# Altium footprint library diode.PcbLib: 49 footprints (part 1 of 4)
Each footprint in its own frame and in the unit in brackets; x right, y up, seen from the top. Pads: shape width x height; smd on the part's side, far side on the other; paste and mask are expansions set on the pad; w line width, h text height; cw(c..) or ccw(c..) is an arc to the next point about the centre after c.
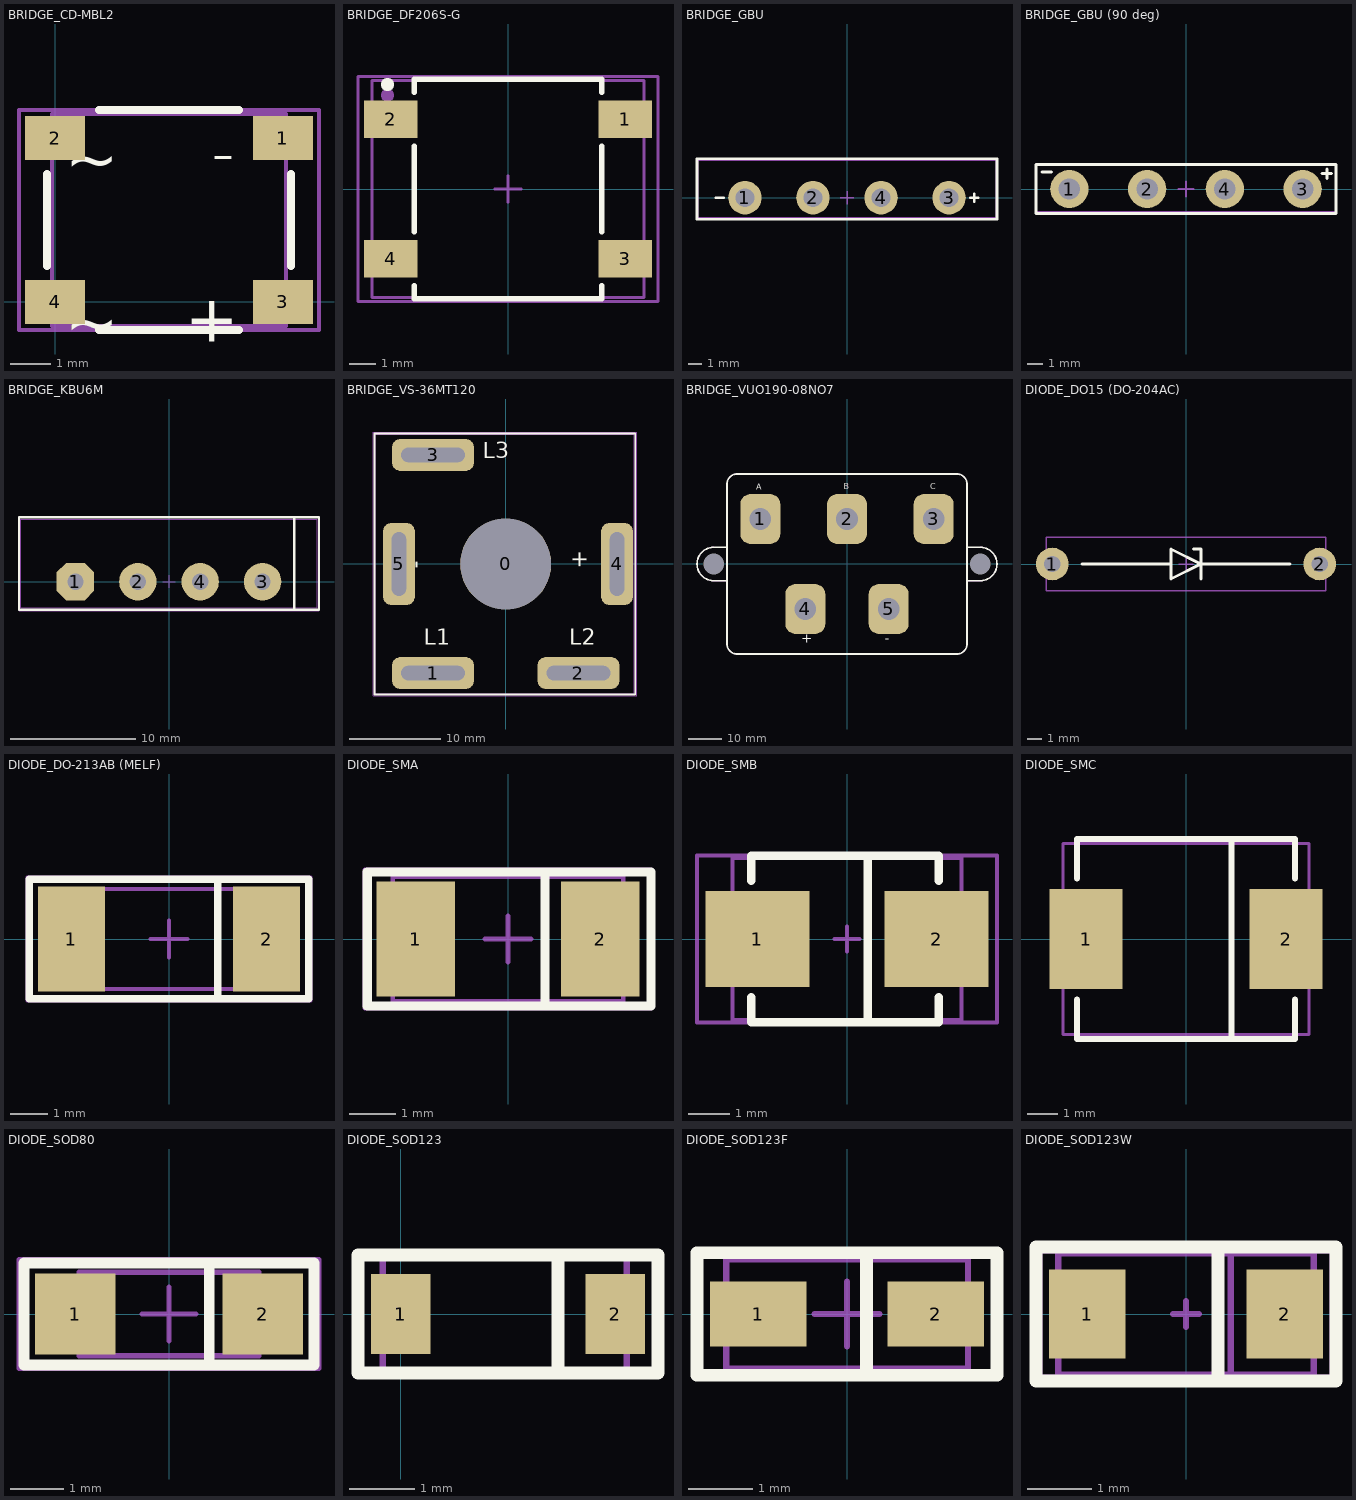
[diagram p0: the footprints below, top view; thin cyan lines are the x and y axes]

## BRIDGE_CD-MBL2 [mm]
pads (4):
  rect 1.5x1.1 smd: 1(5.7,4.1) 2(0,4.1) 3(5.7,0) 4(0,0)
Top Overlay:
  lines w0.2: -0.2,0.9 -0.2,3.2 ; 1.1,-0.7 4.6,-0.7 ; 1.1,4.8 4.6,4.8 ; 5.9,0.9 5.9,3.2
  text "-" at 4.5,4.4 h2
  text "+" at 4.6,0.4 h2
  text "~" at 1.6,0.3 h2
  text "~" at 1.6,4.4 h2
Mechanical 1:
  lines w0.1: -0.07,-0.6 -0.07,4.7 5.77,4.7 5.77,-0.6 -0.07,-0.6
  text "+" at 5.2,0.4 h2
  text "-" at 5.2,4.4 h2
  text "~" at 0.9,4.4 h2
  text "~" at 0.9,0.3 h2
Mechanical 15:
  lines w0.1: -0.9,-0.7 6.6,-0.7 6.6,4.8 -0.9,4.8 -0.9,-0.7
3D body "CD-MBL206SL.STEP": height 1.22, standoff 0, extent -0.07,-0.6 5.77,4.7

## BRIDGE_DF206S-G [mm]
height 22
pads (6):
  rect 2x1.4 smd: 1(4.37,2.605) 2(-4.37,2.605) 3(4.37,-2.605) 4(-4.37,-2.605)
  round 0.5 on Mech1: ""(-4.5,3.5)
  round 0.5 on Top Overlay: ""(-4.5,3.9)
Top Overlay:
  lines w0.2: -3.5,-3.6 -3.5,-4.1 3.5,-4.1 3.5,-3.6 ; -3.5,-1.6 -3.5,1.6 ; -3.5,3.6 -3.5,4.1 3.5,4.1 3.5,3.6 ; 3.5,-1.6 3.5,1.6
Mechanical 1:
  lines w0.1: -5.075,-4.05 -5.075,4.05 5.075,4.05 5.075,-4.05 -5.075,-4.05
Mechanical 15:
  lines w0.1: -0.5,0 0.5,0 ; 0,-0.5 0,0.5 ; -5.6,-4.2 -5.6,4.2 5.6,4.2 5.6,-4.2 -5.6,-4.2
3D body "User Library-PONTE-1.STEP": height 2.7, standoff 0, extent -5.075,-4.05 5.075,4.05

## BRIDGE_GBU [mm] "SMD Diode Bridge"
height 2
pads (4):
  round 2.5 hole 1.4: 1(-7.62,0) 2(-2.54,0) 3(7.62,0) 4(2.54,0)
Top Overlay:
  lines w0.2: -9.8,0 -9.2,0 ; 9.2,0 9.8,0 ; 9.5,-0.3 9.5,0.3 ; -11.2,-1.6 11.2,-1.6 11.2,2.9 -11.2,2.9 -11.2,-1.6
Mechanical 1:
  lines w0.1: -9.8,0 -9.2,0 ; 9.2,0 9.8,0 ; 9.5,-0.3 9.5,0.3 ; -11.15,-1.5 11.15,-1.5 11.15,-0.8 11.15,2.81 -11.15,2.81 -11.15,-1.5
Mechanical 15:
  lines w0.1: -0.5,0 0.5,0 ; 0,-0.5 0,0.5 ; -11.2,-1.6 11.2,-1.6 11.2,2.9 -11.2,2.9 -11.2,-1.6
3D body "User Library-GBU10A.STEP": height 23.8, standoff -13.1, extent -11.15,-0.8 11.15,2.81

## BRIDGE_GBU (90 deg) [mm] "SMD Diode Bridge"
height 2
pads (4):
  round 2.5 hole 1.4: 1(-7.62,0) 2(-2.54,0) 3(7.62,0) 4(2.54,0)
Top Overlay:
  lines w0.2: -9.4,1.1 -8.8,1.1 ; 8.9,1 9.5,1 ; 9.2,0.7 9.2,1.3 ; -9.8,-1.6 9.8,-1.6 9.8,1.6 -9.8,1.6 -9.8,-1.6
Mechanical 1:
  lines w0.1: -9.4,1.1 -8.8,1.1 ; 8.9,1 9.5,1 ; 9.2,0.7 9.2,1.3 ; -9.8,-1.5 9.8,-1.5 9.8,1.6 -9.8,1.6 -9.8,-1.5
Mechanical 15:
  lines w0.1: -0.5,0 0.5,0 ; 0,-0.5 0,0.5 ; -9.8,-1.6 9.8,-1.6 9.8,1.6 -9.8,1.6 -9.8,-1.6
3D body "User Library-GBU.STEP": height 1.71, standoff -6.16, extent -11.15,-0.35 11.15,24.58

## BRIDGE_KBU6M [mm]
height 22
pads (4):
  oct 3x3 hole 1.3: 1(-7.5,0)
  round 3 hole 1.3: 2(-2.5,0) 3(7.5,0) 4(2.5,0)
Top Overlay:
  lines w0.2: 10.04,-2.25 10.04,5.15 ; -12.025,-2.25 12.025,-2.25 12.025,5.15 -12.025,5.15 -12.025,-2.25
Mechanical 1:
  lines w0.1: 10,-2.1 10,5 ; -11.875,-2.1 11.875,-2.1 11.875,5 -11.875,5 -11.875,-2.1
Mechanical 15:
  lines w0.1: -0.5,0 0.5,0 ; 0,-0.5 0,0.5 ; -12.025,-2.31 -12.025,5.15 12.025,5.15 12.025,-2.31 -12.025,-2.31
3D body "KBU6M.STEP": height 19.8, standoff -2, extent -11.85,-2.1 11.85,5

## BRIDGE_VS-36MT120 [mm]
pads (6):
  round 10 hole 10: 0(0,0)
  rrect50% 9x3.5 hole 1.6 slot 7 at 0 deg: 1(-8,-12) 2(8,-12) 3(-8,12)
  rrect50% 3.5x9 hole 1.6 slot 7 at 90 deg: 4(12.25,0) 5(-11.75,0)
Top Overlay:
  lines w0.2: -14.45,-14.35 -14.45,14.35 14.25,14.35 14.25,-14.35 -14.45,-14.35
  text "-" at -8.5,-0.5 h3
  text "+" at 9.5,-0.5 h3
  text "L2" at 7,-9.5 h3
  text "L3" at -2.5,11 h3
  text "L1" at -9,-9.5 h3
Mechanical 1:
  lines w0.1: -14.35,-14.25 14.15,-14.25 14.15,14.25 -14.35,14.25 -14.35,-14.25
Mechanical 15:
  lines w0.1: -14.6,-14.5 14.4,-14.5 14.4,14.5 -14.6,14.5 -14.6,-14.5
3D body "D-63.stp": height 16, standoff -6, extent -14.35,-14.25 14.15,14.25

## BRIDGE_VUO190-08NO7 [mm]
pads (7):
  rrect50% 12x15 hole 6.5: 1(-26,13.5) 2(0,13.5) 3(26,13.5) 4(-12.5,-13.5) 5(12.5,-13.5)
  round 0 hole 6.2: MH(-40,0) MH(40,0)
Top Overlay:
  lines w0.5: -36,-5 -40,-5 cw(c-40,0) -40,5 -36,5 ; 36,-5 40,-5 ccw(c40,0) 40,5 36,5 ; -36,-24 ccw(c-33,-24) -33,-27 33,-27 ccw(c33,-24) 36,-24 36,24 ccw(c33,24) 33,27 -33,27 ccw(c-33,24) -36,24 -36,-24
  text "+" at -13.75,-24.743 h5
  text "-" at 11.25,-24.75 h5
  text "C" at 25,21.75 h3
  text "B" at -1,21.75 h3
  text "A" at -27.25,21.743 h3
Mechanical 1:
  lines w0.1: -36,-5 -40,-5 cw(c-40,0) -40,5 -36,5 ; 36,-5 40,-5 ccw(c40,0) 40,5 36,5 ; -36,-24 ccw(c-33,-24) -33,-27 33,-27 ccw(c33,-24) 36,-24 36,24 ccw(c33,24) 33,27 -33,27 ccw(c-33,24) -36,24 -36,-24
Mechanical 15:
  lines w0.1: -36,-5 -40,-5 cw(c-40,0) -40,5 -36,5 ; 36,-5 40,-5 ccw(c40,0) 40,5 36,5 ; -36,-24 ccw(c-33,-24) -33,-27 33,-27 ccw(c33,-24) 36,-24 36,24 ccw(c33,24) 33,27 -33,27 ccw(c-33,24) -36,24 -36,-24

## DIODE_DO15 (DO-204AC) [mm]
pads (2):
  round 2.2 hole 1.1 mask+0.075: 1(-9,0) 2(9,0)
Top Overlay:
  lines w0.2: -7,0 -1,0 -1,1 ; 0.5,1 1,1 1,-1 ; 7,0 1,0 ; -1,1 1,0 ; -1,1 -1,-1 1,0
Mechanical 1:
  lines w0.1: -7,0 -1,0 -1,1 ; 0.5,1 1,1 1,-1 ; 7,0 1,0 ; -1,1 1,0 ; -1,1 -1,-1 1,0 ; -9.4,-1.8 -9.4,1.8 9.4,1.8 9.4,-1.8 -9.4,-1.8
Mechanical 15:
  lines w0.1: -0.5,0 0.5,0 ; 0,-0.5 0,0.5 ; -9.4,-1.8 9.4,-1.8 9.4,1.8 -9.4,1.8 -9.4,-1.8
3D body "User Library-DO-15-70.STEP": height 3.53, standoff -2, extent -9.415,-1.749 9.415,1.748

## DIODE_DO-213AB (MELF) [mm] "MELF Diode, 2-Leads, Body 5,01x2,53mm, IPC Medium Density"
height 2.67
pads (2):
  rect 1.8x2.8 smd: 1(-2.6,0) 2(2.6,0)
Top Overlay:
  lines w0.2: 1.3,-1.6 1.3,1.6 ; -3.725,-1.6 -3.725,1.6 3.725,1.6 3.725,-1.6 -3.725,-1.6
Mechanical 1:
  lines w0.1: -2.605,-1.335 2.605,-1.335 2.605,1.335 -2.605,1.335 -2.605,-1.335
Mechanical 15:
  lines w0.1: -0.5,0 0.5,0 ; 0,-0.5 0,0.5 ; -3.775,-1.65 3.775,-1.65 3.775,1.65 -3.775,1.65 -3.775,-1.65
3D body "User Library-MELF DO213AB.STEP": height 2.6, standoff 0, extent -2.4,-1.3 2.4,1.3

## DIODE_SMA [mm]
pads (3):
  rect 1.7x2.5 smd: 1(-2,0) 2(2,0)
  round 0.5 on Mech1: ""(2,0.9)
Top Overlay:
  lines w0.2: 0.8,-1.45 0.8,1.45 ; -3.05,-1.45 3.1,-1.45 3.1,1.45 -3.05,1.45 -3.05,-1.45
Mechanical 1:
  lines w0.1: -2.5,-1.35 2.5,-1.35 2.5,1.35 -2.5,1.35 -2.5,-1.35
Mechanical 15:
  lines w0.1: -0.5,0 0.5,0 ; 0,-0.5 0,0.5 ; -3.1,-1.5 -3.1,1.5 3.1,1.5 3.1,-1.5 -3.1,-1.5
3D body "User Library-Diode Molded BodyDIOM5025X231N.STEP": height 2.28, standoff -0.03, extent -2.5,-1.35 2.5,1.35

## DIODE_SMB [mm]
pads (2):
  rect 2.5x2.3 smd: 1(-2.15,0) 2(2.15,0)
Top Overlay:
  lines w0.2: -2.3,-1.4 -2.3,-2 2.2,-2 2.2,-1.4 ; -2.3,1.4 -2.3,2 2.2,2 2.2,1.4 ; 0.5,-2 0.5,2
Mechanical 1:
  lines w0.1: 0.5,-1.95 0.5,1.95 ; -2.75,-1.95 -2.75,1.95 2.75,1.95 2.75,-1.95 -2.75,-1.95
Mechanical 15:
  lines w0.1: -0.3,0 0.3,0 ; 0,-0.3 0,0.3 ; -3.6,-2 3.6,-2 3.6,2 -3.6,2 -3.6,-2
3D body "User Library-DIOM5539X24.STEP": height 2.45, standoff 0.03, extent -2.75,-1.95 2.75,1.95

## DIODE_SMC [mm]
pads (2):
  rect 2.4x3.3 smd: 1(-3.3,0) 2(3.3,0)
Top Overlay:
  lines w0.2: -3.6,-2 -3.6,-3.3 3.6,-3.3 3.6,-2 ; -3.6,2 -3.6,3.3 3.6,3.3 3.6,2 ; 1.5,-3.3 1.5,3.3
Mechanical 1:
  lines w0.1: 1.5,-3.15 1.5,3.15 ; -4.064,-3.15 4.064,-3.15 4.064,3.15 -4.064,3.15 -4.064,-3.15
3D body "User Library-DO-214AB(SMC).STEP": height 2.67, standoff 0.03, extent -4.064,-3.15 4.064,3.15

## DIODE_SOD80 [mm]
height 2
pads (2):
  rect 1.5x1.5 smd: 1(-1.75,0) 2(1.75,0)
Top Overlay:
  lines w0.2: 0.75,-0.925 0.75,0.925 ; -2.7,-0.95 -2.7,0.95 2.7,0.95 2.7,-0.95 -2.7,-0.95
Mechanical 1:
  lines w0.1: 0.75,-0.775 0.75,0.775 ; -1.676,-0.775 -1.676,0.775 1.675,0.775 1.675,-0.775 -1.676,-0.775
Mechanical 15:
  lines w0.1: -0.5,0 0.5,0 ; 0,-0.5 0,0.5 ; -2.794,-1.016 2.794,-1.016 2.794,1.016 -2.794,1.016 -2.794,-1.016
3D body "SOD80-2.step": height 1.52, standoff -0.02, extent -1.676,-0.777 1.677,0.762

## DIODE_SOD123 [mm]
pads (2):
  rect 0.91x1.22 smd: 1(0,0) 2(3.275,0)
Top Overlay:
  lines w0.2: 2.4,-0.9 2.4,0.9 ; -0.65,-0.9 -0.65,0.9 3.925,0.9 3.925,-0.9 -0.65,-0.9
Mechanical 1:
  lines w0.1: 2.4,-0.9 2.4,0.9 ; -0.275,-0.9 -0.275,0.9 3.45,0.9 3.45,-0.9 -0.275,-0.9
Mechanical 15:
  lines w0.1: -0.65,-0.9 -0.65,0.9 3.925,0.9 3.925,-0.9 -0.65,-0.9
3D body "User Library-SOD-123.STEP": height 1.25, standoff 0, extent -0.249,-0.8 3.449,0.8

## DIODE_SOD123F [mm]
height 1
pads (2):
  rect 1.5x1 smd: 1(-1.375,0) 2(1.375,0)
Top Overlay:
  lines w0.2: 0.3,-0.9 0.3,0.925 ; -2.325,-0.95 -2.325,0.95 2.325,0.95 2.325,-0.95 -2.325,-0.95
Mechanical 1:
  lines w0.1: 0.3,-0.85 0.3,0.85 ; -1.875,-0.85 1.875,-0.85 1.875,0.85 -1.875,0.85 -1.875,-0.85
Mechanical 15:
  lines w0.1: -0.5,0 0.5,0 ; 0,-0.5 0,0.5 ; -2.325,-0.95 2.325,-0.95 2.325,0.95 -2.325,0.95 -2.325,-0.95
3D body "SOD123F.STEP": height 1.23, standoff 0.02, extent -1.875,-0.85 1.875,0.85

## DIODE_SOD123W [mm]
pads (2):
  rect 1.2x1.4 smd: 1(-1.55,0) 2(1.55,0)
Top Overlay:
  lines w0.2: 0.5,-1.05 0.5,1.05 ; -2.35,-1.05 -2.35,1.05 2.35,1.05 2.35,-1.05 -2.35,-1.05
Mechanical 1:
  lines w0.1: 0.7,-0.95 0.7,0.95 ; 2,-0.95 2,0.95 ; 2,-0.95 2,-0.95 ; 2,-0.95 -2,-0.95 -2,0.95 2,0.95 ; 2,0.95 2,0.95
Mechanical 15:
  lines w0.1: -0.2,0 0.2,0 ; 0,-0.2 0,0.2 ; -2.3,-1 2.3,-1 2.3,1 -2.3,1 -2.3,-1
3D body "User Library-SOD123W.STEP": height 1.1, standoff -0.01, extent -2,-0.95 2,0.95